# Altium schematic symbol library AD5063.SchLib: 1 symbol
Pins are listed as number, name and electrical type; pins without a type are passive.

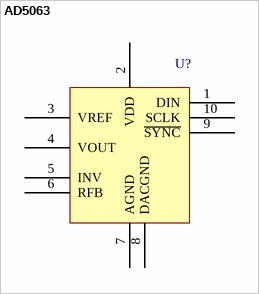
[diagram p0: symbol AD5063]

## AD5063
designator U?
pins: 1 DIN, 2 VDD, 3 VREF, 4 VOUT, 5 INV, 6 RFB, 7 AGND, 8 DACGND, 9 ~{SYNC}, 10 SCLK